# Altium integrated library Linear Technology Power Management System Supervisor, Monitor and Control.IntLib: 1611 symbols (part 15 of 100)
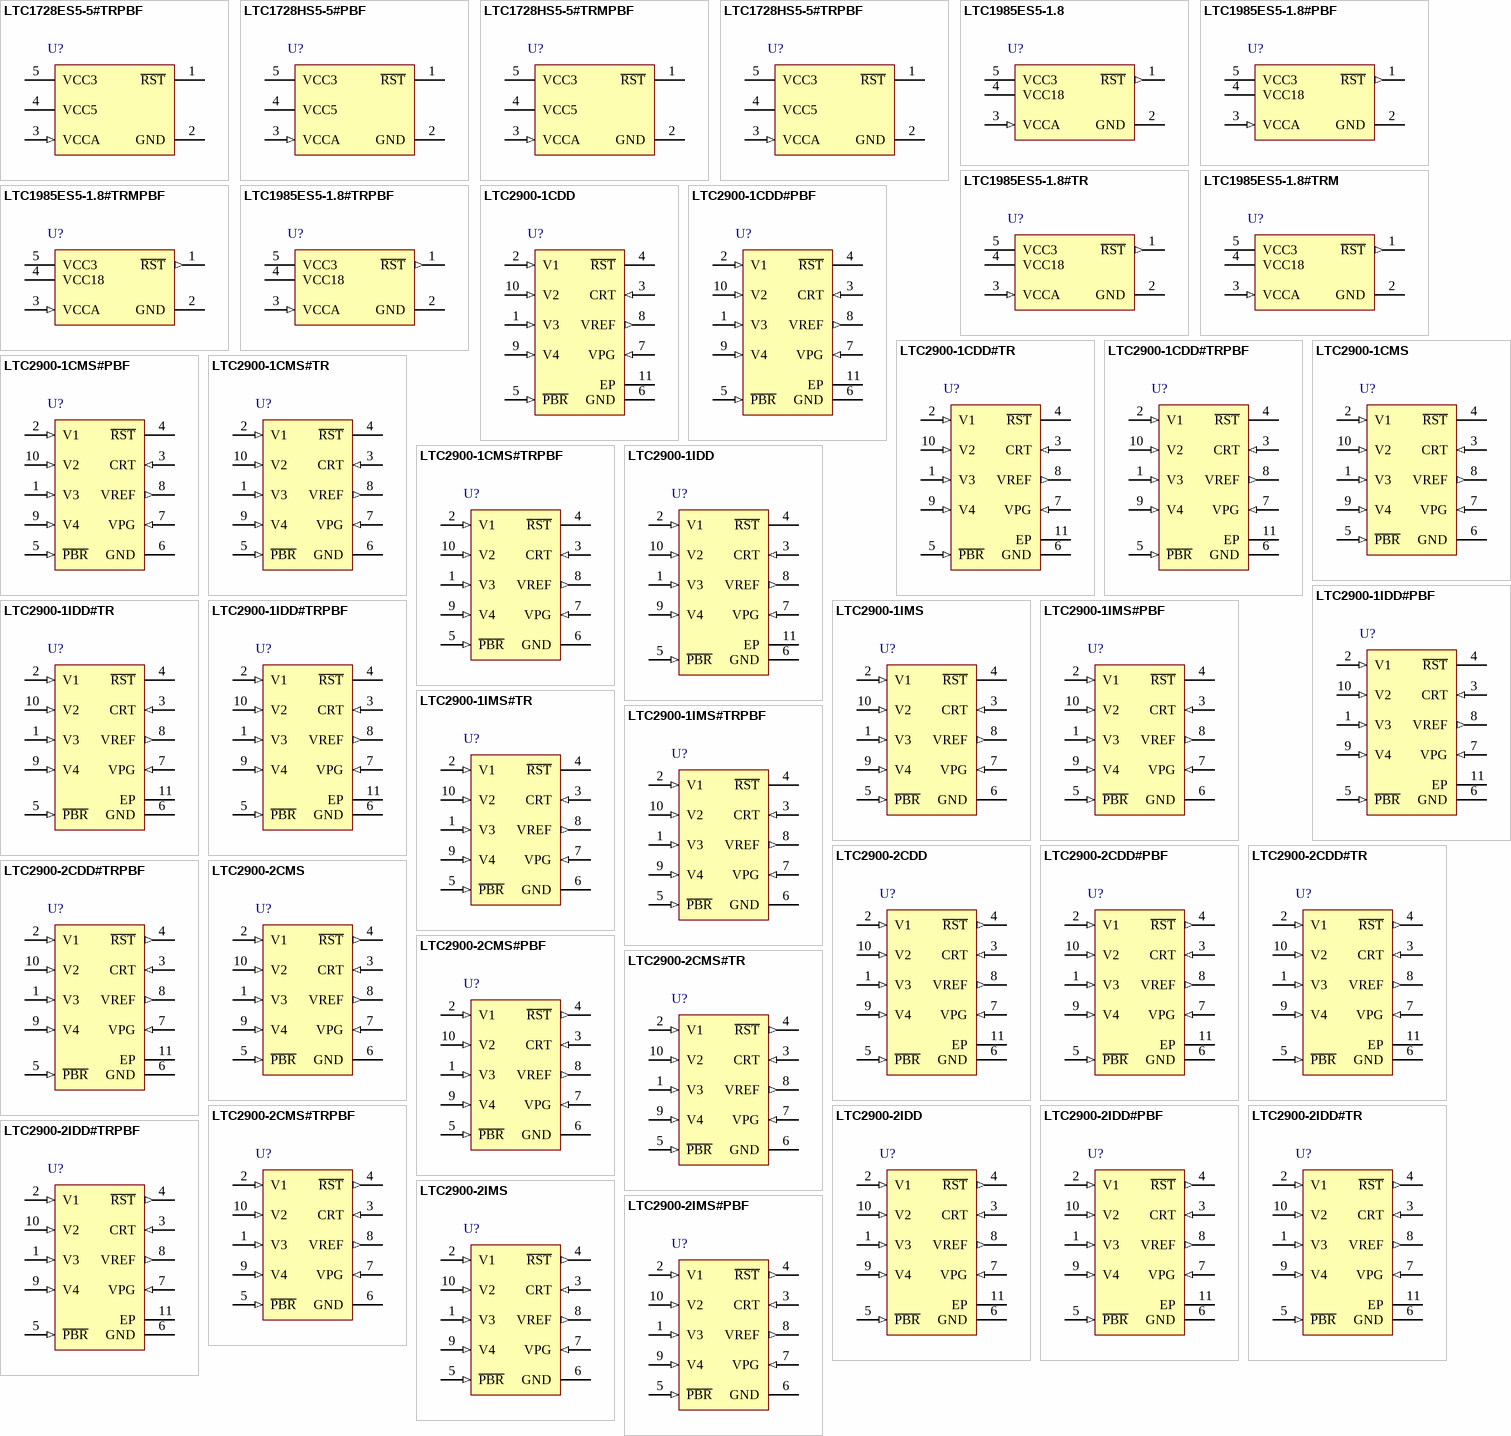
[diagram p59: symbols LTC1728ES5-5#TRPBF to LTC2900-2IMS#PBF]

## LTC1728HS5-5#TRPBF
designator U?
Micropower Precision Triple Supply Monitor, 5-pin SOT23 (S5-5), -40 to 125 degC, Pb-Free, Tape and Reel; Manufacturer: Linear Technology; PartNumber: LTC1728HS5-5#TRPBF; Number of Supplies(#): 3; DatasheetVersion: Rev. B; PackageVersion: Aug-07; PackageReference: S5-5; PackageDescription: 5-Pin Plastic SOT-23, Body 1.625 x 2.90 mm, Pitch 0.95 mm; Supplier 1: Digi-Key; Supplier Part Number 1: LTC1728HS5-5#TRPBF-ND; Supplier 2: Newark; Supplier Part Number 2: 56M3506; Packing: Tape and Reel; RoHS: TRUE; Mounting Technology: Surface Mount; ComponentLink1Description: Manufacturer URL; ComponentLink1URL: http://www.linear.com/; ComponentLink2Description: Datasheet; ComponentLink2URL: http://cds.linear.com/docs/en/datasheet/17278fb.pdf; ComponentLink3Description: Package Specification; ComponentLink3URL: http://cds.linear.com/docs/en/datasheet/17278fb.pdf
footprint LT-S5-5-SOT-23_N (SOT23, 5-Leads, Body 3x1.75mm, Pitch 0.95mm, IPC Medium Density)
footprint LT-S5-5-SOT-23_L (SOT23, 5-Leads, Body 3x1.75mm, Pitch 0.95mm, IPC High Density)
footprint LT-S5-5-SOT-23_M (SOT23, 5-Leads, Body 3x1.75mm, Pitch 0.95mm, IPC Low Density)
pins: 1 ~{RST} (oc) "Reset Logic Output. Active low, opendrain logic output with weak pull-up to VCC3. Can be pulled up greater than VCC3 when interfacing to 5V logic. Asserted when one or all of the supplies are below trip thresholds and held (See Datasheet)", 2 GND (power) "Ground.", 3 VCCA (in) "1V Sense, High Impedance Input. If unused,it can be tied to either VCC3 or VCC5/VCC25/VCC18.", 4 VCC5 (power) "5V Sense Input and Power Supply Pin.This pin is used on the LTC1727-5/LTC1728-5 to provide power to the part when the voltage on VCC5 is greater than the voltage on VCC3. Bypass to ground with a >=0.1uF ceramic capacitor.", 5 VCC3 (power) "3.3V Sense Input and Power Supply Pin. (3V Sense Input and Power Supply Pin for LTC1728-1.8.) This pin provides power to the part when the voltage on VCC3 is greater than the voltage on VCC5/VCC25/VCC18.Bypass to ground with (See Datasheet)"

## LTC1985ES5-1.8
designator U?
Micropower Precision Triple Supply Monitor with Push-Pull Reset Output, 5-pin SOT23 (S5-5), -40 to 85 degC; Manufacturer: Linear Technology; PartNumber: LTC1985ES5-1.8; Number of Supplies(#): 3; PackageVersion: Aug-07; PackageReference: S5-5; PackageDescription: 5-Pin Plastic SOT-23, Body 1.625 x 2.90 mm, Pitch 0.95 mm; RoHS: FALSE; Mounting Technology: Surface Mount; ComponentLink1Description: Manufacturer URL; ComponentLink1URL: http://www.linear.com/; ComponentLink2Description: Datasheet; ComponentLink2URL: http://cds.linear.com/docs/en/datasheet/198518f.pdf; ComponentLink3Description: Package Specification; ComponentLink3URL: http://cds.linear.com/docs/en/datasheet/17278fb.pdf
footprint LT-S5-5-SOT-23_N (SOT23, 5-Leads, Body 3x1.75mm, Pitch 0.95mm, IPC Medium Density)
footprint LT-S5-5-SOT-23_L (SOT23, 5-Leads, Body 3x1.75mm, Pitch 0.95mm, IPC High Density)
footprint LT-S5-5-SOT-23_M (SOT23, 5-Leads, Body 3x1.75mm, Pitch 0.95mm, IPC Low Density)
pins: 1 ~{RST} (out) "Reset Logic Output. Active low, 3V pushpull output. Asserted when one or all of the supplies are below trip thresholds and held for 200ms after all supplies become valid.", 2 GND (power) "Ground.", 3 VCCA (in) "1V Sense, High Impedance Input. If unused it can be tied to either VCC3 or VCC18.", 4 VCC18 (power) "1.8V Sense Input and Power Supply Pin. This pin is used on the LTC1985 to provide power to the part when the voltage on VCC18 is greater than the voltage on VCC3. Bypass to ground with a >=0.1uF ceramic capacitor.", 5 VCC3 (power) "3V Sense Input and Power Supply Pin. This pin provides power to the part when the voltage on VCC3 is greater than the voltage on VCC18. Bypass to ground with a >=0.1uF ceramic capacitor."

## LTC1985ES5-1.8#PBF
designator U?
Micropower Precision Triple Supply Monitor with Push-Pull Reset Output, 5-pin SOT23 (S5-5), -40 to 85 degC, Pb-Free; Manufacturer: Linear Technology; PartNumber: LTC1985ES5-1.8#PBF; Number of Supplies(#): 3; PackageVersion: Aug-07; PackageReference: S5-5; PackageDescription: 5-Pin Plastic SOT-23, Body 1.625 x 2.90 mm, Pitch 0.95 mm; Supplier 1: Newark; Supplier Part Number 1: 79R2160; RoHS: TRUE; Mounting Technology: Surface Mount; ComponentLink1Description: Manufacturer URL; ComponentLink1URL: http://www.linear.com/; ComponentLink2Description: Datasheet; ComponentLink2URL: http://cds.linear.com/docs/en/datasheet/198518f.pdf; ComponentLink3Description: Package Specification; ComponentLink3URL: http://cds.linear.com/docs/en/datasheet/17278fb.pdf
footprint LT-S5-5-SOT-23_N (SOT23, 5-Leads, Body 3x1.75mm, Pitch 0.95mm, IPC Medium Density)
footprint LT-S5-5-SOT-23_L (SOT23, 5-Leads, Body 3x1.75mm, Pitch 0.95mm, IPC High Density)
footprint LT-S5-5-SOT-23_M (SOT23, 5-Leads, Body 3x1.75mm, Pitch 0.95mm, IPC Low Density)
pins: 1 ~{RST} (out) "Reset Logic Output. Active low, 3V pushpull output. Asserted when one or all of the supplies are below trip thresholds and held for 200ms after all supplies become valid.", 2 GND (power) "Ground.", 3 VCCA (in) "1V Sense, High Impedance Input. If unused it can be tied to either VCC3 or VCC18.", 4 VCC18 (power) "1.8V Sense Input and Power Supply Pin. This pin is used on the LTC1985 to provide power to the part when the voltage on VCC18 is greater than the voltage on VCC3. Bypass to ground with a >=0.1uF ceramic capacitor.", 5 VCC3 (power) "3V Sense Input and Power Supply Pin. This pin provides power to the part when the voltage on VCC3 is greater than the voltage on VCC18. Bypass to ground with a >=0.1uF ceramic capacitor."

## LTC1985ES5-1.8#TR
designator U?
Micropower Precision Triple Supply Monitor with Push-Pull Reset Output, 5-pin SOT23 (S5-5), -40 to 85 degC, Tape and Reel; Manufacturer: Linear Technology; PartNumber: LTC1985ES5-1.8#TR; Number of Supplies(#): 3; PackageVersion: Aug-07; PackageReference: S5-5; PackageDescription: 5-Pin Plastic SOT-23, Body 1.625 x 2.90 mm, Pitch 0.95 mm; Supplier 1: Digi-Key; Supplier Part Number 1: LTC1985ES5-1.8#TR-ND; Packing: Tape and Reel; RoHS: FALSE; Mounting Technology: Surface Mount; ComponentLink1Description: Manufacturer URL; ComponentLink1URL: http://www.linear.com/; ComponentLink2Description: Datasheet; ComponentLink2URL: http://cds.linear.com/docs/en/datasheet/198518f.pdf; ComponentLink3Description: Package Specification; ComponentLink3URL: http://cds.linear.com/docs/en/datasheet/17278fb.pdf
footprint LT-S5-5-SOT-23_N (SOT23, 5-Leads, Body 3x1.75mm, Pitch 0.95mm, IPC Medium Density)
footprint LT-S5-5-SOT-23_L (SOT23, 5-Leads, Body 3x1.75mm, Pitch 0.95mm, IPC High Density)
footprint LT-S5-5-SOT-23_M (SOT23, 5-Leads, Body 3x1.75mm, Pitch 0.95mm, IPC Low Density)
pins: 1 ~{RST} (out) "Reset Logic Output. Active low, 3V pushpull output. Asserted when one or all of the supplies are below trip thresholds and held for 200ms after all supplies become valid.", 2 GND (power) "Ground.", 3 VCCA (in) "1V Sense, High Impedance Input. If unused it can be tied to either VCC3 or VCC18.", 4 VCC18 (power) "1.8V Sense Input and Power Supply Pin. This pin is used on the LTC1985 to provide power to the part when the voltage on VCC18 is greater than the voltage on VCC3. Bypass to ground with a >=0.1uF ceramic capacitor.", 5 VCC3 (power) "3V Sense Input and Power Supply Pin. This pin provides power to the part when the voltage on VCC3 is greater than the voltage on VCC18. Bypass to ground with a >=0.1uF ceramic capacitor."

## LTC1985ES5-1.8#TRM
designator U?
Micropower Precision Triple Supply Monitor with Push-Pull Reset Output, 5-pin SOT23 (S5-5), -40 to 85 degC, Mini Tape and Reel; Manufacturer: Linear Technology; PartNumber: LTC1985ES5-1.8#TRM; Number of Supplies(#): 3; PackageVersion: Aug-07; PackageReference: S5-5; PackageDescription: 5-Pin Plastic SOT-23, Body 1.625 x 2.90 mm, Pitch 0.95 mm; Supplier 1: Digi-Key; Supplier Part Number 1: LTC1985ES5-1.8#TRM-ND; Packing: Mini Tape and Reel; RoHS: FALSE; Mounting Technology: Surface Mount; ComponentLink1Description: Manufacturer URL; ComponentLink1URL: http://www.linear.com/; ComponentLink2Description: Datasheet; ComponentLink2URL: http://cds.linear.com/docs/en/datasheet/198518f.pdf; ComponentLink3Description: Package Specification; ComponentLink3URL: http://cds.linear.com/docs/en/datasheet/17278fb.pdf
footprint LT-S5-5-SOT-23_N (SOT23, 5-Leads, Body 3x1.75mm, Pitch 0.95mm, IPC Medium Density)
footprint LT-S5-5-SOT-23_L (SOT23, 5-Leads, Body 3x1.75mm, Pitch 0.95mm, IPC High Density)
footprint LT-S5-5-SOT-23_M (SOT23, 5-Leads, Body 3x1.75mm, Pitch 0.95mm, IPC Low Density)
pins: 1 ~{RST} (out) "Reset Logic Output. Active low, 3V pushpull output. Asserted when one or all of the supplies are below trip thresholds and held for 200ms after all supplies become valid.", 2 GND (power) "Ground.", 3 VCCA (in) "1V Sense, High Impedance Input. If unused it can be tied to either VCC3 or VCC18.", 4 VCC18 (power) "1.8V Sense Input and Power Supply Pin. This pin is used on the LTC1985 to provide power to the part when the voltage on VCC18 is greater than the voltage on VCC3. Bypass to ground with a >=0.1uF ceramic capacitor.", 5 VCC3 (power) "3V Sense Input and Power Supply Pin. This pin provides power to the part when the voltage on VCC3 is greater than the voltage on VCC18. Bypass to ground with a >=0.1uF ceramic capacitor."

## LTC1985ES5-1.8#TRMPBF
designator U?
Micropower Precision Triple Supply Monitor with Push-Pull Reset Output, 5-pin SOT23 (S5-5), -40 to 85 degC, Pb-Free, Mini Tape and Reel; Manufacturer: Linear Technology; PartNumber: LTC1985ES5-1.8#TRMPBF; Number of Supplies(#): 3; PackageVersion: Aug-07; PackageReference: S5-5; PackageDescription: 5-Pin Plastic SOT-23, Body 1.625 x 2.90 mm, Pitch 0.95 mm; Supplier 1: Digi-Key; Supplier Part Number 1: LTC1985ES5-1.8#TRMPBF-ND; Supplier 2: Farnell; Supplier Part Number 2: 1556398; Supplier 3: Newark; Supplier Part Number 3: 56M4429; Packing: Mini Tape and Reel; RoHS: TRUE; Mounting Technology: Surface Mount; ComponentLink1Description: Manufacturer URL; ComponentLink1URL: http://www.linear.com/; ComponentLink2Description: Datasheet; ComponentLink2URL: http://cds.linear.com/docs/en/datasheet/198518f.pdf; ComponentLink3Description: Package Specification; ComponentLink3URL: http://cds.linear.com/docs/en/datasheet/17278fb.pdf
footprint LT-S5-5-SOT-23_N (SOT23, 5-Leads, Body 3x1.75mm, Pitch 0.95mm, IPC Medium Density)
footprint LT-S5-5-SOT-23_L (SOT23, 5-Leads, Body 3x1.75mm, Pitch 0.95mm, IPC High Density)
footprint LT-S5-5-SOT-23_M (SOT23, 5-Leads, Body 3x1.75mm, Pitch 0.95mm, IPC Low Density)
pins: 1 ~{RST} (out) "Reset Logic Output. Active low, 3V pushpull output. Asserted when one or all of the supplies are below trip thresholds and held for 200ms after all supplies become valid.", 2 GND (power) "Ground.", 3 VCCA (in) "1V Sense, High Impedance Input. If unused it can be tied to either VCC3 or VCC18.", 4 VCC18 (power) "1.8V Sense Input and Power Supply Pin. This pin is used on the LTC1985 to provide power to the part when the voltage on VCC18 is greater than the voltage on VCC3. Bypass to ground with a >=0.1uF ceramic capacitor.", 5 VCC3 (power) "3V Sense Input and Power Supply Pin. This pin provides power to the part when the voltage on VCC3 is greater than the voltage on VCC18. Bypass to ground with a >=0.1uF ceramic capacitor."

## LTC1985ES5-1.8#TRPBF
designator U?
Micropower Precision Triple Supply Monitor with Push-Pull Reset Output, 5-pin SOT23 (S5-5), -40 to 85 degC, Pb-Free, Tape and Reel; Manufacturer: Linear Technology; PartNumber: LTC1985ES5-1.8#TRPBF; Number of Supplies(#): 3; PackageVersion: Aug-07; PackageReference: S5-5; PackageDescription: 5-Pin Plastic SOT-23, Body 1.625 x 2.90 mm, Pitch 0.95 mm; Supplier 1: Digi-Key; Supplier Part Number 1: LTC1985ES5-1.8#TRPBF-ND; Supplier 2: Newark; Supplier Part Number 2: 56M4430; Packing: Tape and Reel; RoHS: TRUE; Mounting Technology: Surface Mount; ComponentLink1Description: Manufacturer URL; ComponentLink1URL: http://www.linear.com/; ComponentLink2Description: Datasheet; ComponentLink2URL: http://cds.linear.com/docs/en/datasheet/198518f.pdf; ComponentLink3Description: Package Specification; ComponentLink3URL: http://cds.linear.com/docs/en/datasheet/17278fb.pdf
footprint LT-S5-5-SOT-23_N (SOT23, 5-Leads, Body 3x1.75mm, Pitch 0.95mm, IPC Medium Density)
footprint LT-S5-5-SOT-23_L (SOT23, 5-Leads, Body 3x1.75mm, Pitch 0.95mm, IPC High Density)
footprint LT-S5-5-SOT-23_M (SOT23, 5-Leads, Body 3x1.75mm, Pitch 0.95mm, IPC Low Density)
pins: 1 ~{RST} (out) "Reset Logic Output. Active low, 3V pushpull output. Asserted when one or all of the supplies are below trip thresholds and held for 200ms after all supplies become valid.", 2 GND (power) "Ground.", 3 VCCA (in) "1V Sense, High Impedance Input. If unused it can be tied to either VCC3 or VCC18.", 4 VCC18 (power) "1.8V Sense Input and Power Supply Pin. This pin is used on the LTC1985 to provide power to the part when the voltage on VCC18 is greater than the voltage on VCC3. Bypass to ground with a >=0.1uF ceramic capacitor.", 5 VCC3 (power) "3V Sense Input and Power Supply Pin. This pin provides power to the part when the voltage on VCC3 is greater than the voltage on VCC18. Bypass to ground with a >=0.1uF ceramic capacitor."

## LTC2900-1CDD
designator U?
Programmable Quad Supply Monitor with Adjustable Reset Timer, 10-pin SON (DD-10), 0 to 70 degC; Manufacturer: Linear Technology; PartNumber: LTC2900-1CDD; Number of Supplies(#): 4; PackageVersion: Rev. C, 06/2010; PackageReference: DD-10; PackageDescription: 10-Pin Plastic DFN, Body 3 x 3 mm, Pitch 0.5 mm; Supplier 1: Digi-Key; Supplier Part Number 1: LTC2900-1CDD-ND; RoHS: FALSE; Mounting Technology: Surface Mount; Code_JEDEC: MO-229; ComponentLink1Description: Manufacturer URL; ComponentLink1URL: http://www.linear.com/; ComponentLink2Description: Datasheet; ComponentLink2URL: http://cds.linear.com/docs/en/datasheet/2900f.pdf; ComponentLink3Description: Package Specification; ComponentLink3URL: http://cds.linear.com/docs/en/packaging/DFN_10_05-08-1699.pdf
footprint LT-DD-10_V (SON, 10-Leads, Body 3x3mm, Pitch 0.5mm, Thermal Pad 2.38x1.65mm)
pins: 1 V3 (in) "Voltage Input 3. Select from 2.5V, 1.8V, 1.5V or ADJ. See Table 1 for details.", 2 V1 (in) "Voltage Input 1. Select from 5V or 3.3V. See Table 1 for details. The greater of (V1, V2) is also VCC for the device. Bypass this pin to ground with a 0.1uF (or greater) capacitor.", 3 CRT (in) "Reset Delay Time Programming Pin. Attach an external capacitor (CRT) to GND to set a reset delay time of 4.6ms/nF. Leaving the pin open generates a minimum delay of approximately 50us. A 47nF capacitor will generate a 216ms (See Datasheet)", 4 ~{RST} (oc) "Reset Logic Output. Active low with weak pull-up to V2 (LTC2900-1) or active pull-up to V2 (LTC2900-2). Pulls low when any voltage input is below the reset threshold and held low for the programmed delay time after all (See Datasheet)", 5 ~{PBR} (in) "Manual Reset Pin. Attach a push-button switch between this pin and ground. A logic low on this pin will pull R\S\T\ low. When the P\B\R\ pin returns high, R\S\T\ will return high after the programmed reset delay assuming all (See Datasheet)", 6 GND (power) "Ground.", 7 VPG (in) "Voltage Threshold Combination Select Input. Connect to an external 1% resistive divider between VREF and GND to select 1 of 16 combinations of preset and/or +/-adjustable voltage thresholds (see Table 1). Do not add (See Datasheet)", 8 VREF (out) "Buffered Reference Voltage. A 1.210V nominal reference used for the programming voltage (VPG) and for the offset of negative adjustable applications. The buffered reference can source and sink up to 1mA. The reference can (See Datasheet)", 9 V4 (in) "Voltage Input 4. Select from 1.8V, 1.5V, ADJ or -ADJ. See Table 1 for details.", 10 V2 (in) "Voltage Input 2. Select from 3.3V, 3V or 2.5V. See Table 1 for details. The greater of (V1, V2) is also VCC for the device. Bypass this pin to ground with a 0.1uF (or greater) capacitor. R\S\T\ is weakly pulled up to V2 (See Datasheet)", 11 EP

## LTC2900-1CDD#PBF
designator U?
Programmable Quad Supply Monitor with Adjustable Reset Timer, 10-pin SON (DD-10), 0 to 70 degC, Pb-Free; Manufacturer: Linear Technology; PartNumber: LTC2900-1CDD#PBF; Number of Supplies(#): 4; PackageVersion: Rev. C, 06/2010; PackageReference: DD-10; PackageDescription: 10-Pin Plastic DFN, Body 3 x 3 mm, Pitch 0.5 mm; Supplier 1: Digi-Key; Supplier Part Number 1: LTC2900-1CDD#PBF-ND; Supplier 2: Newark; Supplier Part Number 2: 56M6541; RoHS: TRUE; Mounting Technology: Surface Mount; Code_JEDEC: MO-229; ComponentLink1Description: Manufacturer URL; ComponentLink1URL: http://www.linear.com/; ComponentLink2Description: Datasheet; ComponentLink2URL: http://cds.linear.com/docs/en/datasheet/2900f.pdf; ComponentLink3Description: Package Specification; ComponentLink3URL: http://cds.linear.com/docs/en/packaging/DFN_10_05-08-1699.pdf
footprint LT-DD-10_V (SON, 10-Leads, Body 3x3mm, Pitch 0.5mm, Thermal Pad 2.38x1.65mm)
pins: 1 V3 (in) "Voltage Input 3. Select from 2.5V, 1.8V, 1.5V or ADJ. See Table 1 for details.", 2 V1 (in) "Voltage Input 1. Select from 5V or 3.3V. See Table 1 for details. The greater of (V1, V2) is also VCC for the device. Bypass this pin to ground with a 0.1uF (or greater) capacitor.", 3 CRT (in) "Reset Delay Time Programming Pin. Attach an external capacitor (CRT) to GND to set a reset delay time of 4.6ms/nF. Leaving the pin open generates a minimum delay of approximately 50us. A 47nF capacitor will generate a 216ms (See Datasheet)", 4 ~{RST} (oc) "Reset Logic Output. Active low with weak pull-up to V2 (LTC2900-1) or active pull-up to V2 (LTC2900-2). Pulls low when any voltage input is below the reset threshold and held low for the programmed delay time after all (See Datasheet)", 5 ~{PBR} (in) "Manual Reset Pin. Attach a push-button switch between this pin and ground. A logic low on this pin will pull R\S\T\ low. When the P\B\R\ pin returns high, R\S\T\ will return high after the programmed reset delay assuming all (See Datasheet)", 6 GND (power) "Ground.", 7 VPG (in) "Voltage Threshold Combination Select Input. Connect to an external 1% resistive divider between VREF and GND to select 1 of 16 combinations of preset and/or +/-adjustable voltage thresholds (see Table 1). Do not add (See Datasheet)", 8 VREF (out) "Buffered Reference Voltage. A 1.210V nominal reference used for the programming voltage (VPG) and for the offset of negative adjustable applications. The buffered reference can source and sink up to 1mA. The reference can (See Datasheet)", 9 V4 (in) "Voltage Input 4. Select from 1.8V, 1.5V, ADJ or -ADJ. See Table 1 for details.", 10 V2 (in) "Voltage Input 2. Select from 3.3V, 3V or 2.5V. See Table 1 for details. The greater of (V1, V2) is also VCC for the device. Bypass this pin to ground with a 0.1uF (or greater) capacitor. R\S\T\ is weakly pulled up to V2 (See Datasheet)", 11 EP

## LTC2900-1CDD#TR
designator U?
Programmable Quad Supply Monitor with Adjustable Reset Timer, 10-pin SON (DD-10), 0 to 70 degC, Tape and Reel; Manufacturer: Linear Technology; PartNumber: LTC2900-1CDD#TR; Number of Supplies(#): 4; PackageVersion: Rev. C, 06/2010; PackageReference: DD-10; PackageDescription: 10-Pin Plastic DFN, Body 3 x 3 mm, Pitch 0.5 mm; Supplier 1: Digi-Key; Supplier Part Number 1: LTC2900-1CDD#TR-ND; Packing: Tape and Reel; RoHS: FALSE; Mounting Technology: Surface Mount; Code_JEDEC: MO-229; ComponentLink1Description: Manufacturer URL; ComponentLink1URL: http://www.linear.com/; ComponentLink2Description: Datasheet; ComponentLink2URL: http://cds.linear.com/docs/en/datasheet/2900f.pdf; ComponentLink3Description: Package Specification; ComponentLink3URL: http://cds.linear.com/docs/en/packaging/DFN_10_05-08-1699.pdf
footprint LT-DD-10_V (SON, 10-Leads, Body 3x3mm, Pitch 0.5mm, Thermal Pad 2.38x1.65mm)
pins: 1 V3 (in) "Voltage Input 3. Select from 2.5V, 1.8V, 1.5V or ADJ. See Table 1 for details.", 2 V1 (in) "Voltage Input 1. Select from 5V or 3.3V. See Table 1 for details. The greater of (V1, V2) is also VCC for the device. Bypass this pin to ground with a 0.1uF (or greater) capacitor.", 3 CRT (in) "Reset Delay Time Programming Pin. Attach an external capacitor (CRT) to GND to set a reset delay time of 4.6ms/nF. Leaving the pin open generates a minimum delay of approximately 50us. A 47nF capacitor will generate a 216ms (See Datasheet)", 4 ~{RST} (oc) "Reset Logic Output. Active low with weak pull-up to V2 (LTC2900-1) or active pull-up to V2 (LTC2900-2). Pulls low when any voltage input is below the reset threshold and held low for the programmed delay time after all (See Datasheet)", 5 ~{PBR} (in) "Manual Reset Pin. Attach a push-button switch between this pin and ground. A logic low on this pin will pull R\S\T\ low. When the P\B\R\ pin returns high, R\S\T\ will return high after the programmed reset delay assuming all (See Datasheet)", 6 GND (power) "Ground.", 7 VPG (in) "Voltage Threshold Combination Select Input. Connect to an external 1% resistive divider between VREF and GND to select 1 of 16 combinations of preset and/or +/-adjustable voltage thresholds (see Table 1). Do not add (See Datasheet)", 8 VREF (out) "Buffered Reference Voltage. A 1.210V nominal reference used for the programming voltage (VPG) and for the offset of negative adjustable applications. The buffered reference can source and sink up to 1mA. The reference can (See Datasheet)", 9 V4 (in) "Voltage Input 4. Select from 1.8V, 1.5V, ADJ or -ADJ. See Table 1 for details.", 10 V2 (in) "Voltage Input 2. Select from 3.3V, 3V or 2.5V. See Table 1 for details. The greater of (V1, V2) is also VCC for the device. Bypass this pin to ground with a 0.1uF (or greater) capacitor. R\S\T\ is weakly pulled up to V2 (See Datasheet)", 11 EP

## LTC2900-1CDD#TRPBF
designator U?
Programmable Quad Supply Monitor with Adjustable Reset Timer, 10-pin SON (DD-10), 0 to 70 degC, Pb-Free, Tape and Reel; Manufacturer: Linear Technology; PartNumber: LTC2900-1CDD#TRPBF; Number of Supplies(#): 4; PackageVersion: Rev. C, 06/2010; PackageReference: DD-10; PackageDescription: 10-Pin Plastic DFN, Body 3 x 3 mm, Pitch 0.5 mm; Supplier 1: Digi-Key; Supplier Part Number 1: LTC2900-1CDD#TRPBF-ND; Supplier 2: Newark; Supplier Part Number 2: 56M6543; Packing: Tape and Reel; RoHS: TRUE; Mounting Technology: Surface Mount; Code_JEDEC: MO-229; ComponentLink1Description: Manufacturer URL; ComponentLink1URL: http://www.linear.com/; ComponentLink2Description: Datasheet; ComponentLink2URL: http://cds.linear.com/docs/en/datasheet/2900f.pdf; ComponentLink3Description: Package Specification; ComponentLink3URL: http://cds.linear.com/docs/en/packaging/DFN_10_05-08-1699.pdf
footprint LT-DD-10_V (SON, 10-Leads, Body 3x3mm, Pitch 0.5mm, Thermal Pad 2.38x1.65mm)
pins: 1 V3 (in) "Voltage Input 3. Select from 2.5V, 1.8V, 1.5V or ADJ. See Table 1 for details.", 2 V1 (in) "Voltage Input 1. Select from 5V or 3.3V. See Table 1 for details. The greater of (V1, V2) is also VCC for the device. Bypass this pin to ground with a 0.1uF (or greater) capacitor.", 3 CRT (in) "Reset Delay Time Programming Pin. Attach an external capacitor (CRT) to GND to set a reset delay time of 4.6ms/nF. Leaving the pin open generates a minimum delay of approximately 50us. A 47nF capacitor will generate a 216ms (See Datasheet)", 4 ~{RST} (oc) "Reset Logic Output. Active low with weak pull-up to V2 (LTC2900-1) or active pull-up to V2 (LTC2900-2). Pulls low when any voltage input is below the reset threshold and held low for the programmed delay time after all (See Datasheet)", 5 ~{PBR} (in) "Manual Reset Pin. Attach a push-button switch between this pin and ground. A logic low on this pin will pull R\S\T\ low. When the P\B\R\ pin returns high, R\S\T\ will return high after the programmed reset delay assuming all (See Datasheet)", 6 GND (power) "Ground.", 7 VPG (in) "Voltage Threshold Combination Select Input. Connect to an external 1% resistive divider between VREF and GND to select 1 of 16 combinations of preset and/or +/-adjustable voltage thresholds (see Table 1). Do not add (See Datasheet)", 8 VREF (out) "Buffered Reference Voltage. A 1.210V nominal reference used for the programming voltage (VPG) and for the offset of negative adjustable applications. The buffered reference can source and sink up to 1mA. The reference can (See Datasheet)", 9 V4 (in) "Voltage Input 4. Select from 1.8V, 1.5V, ADJ or -ADJ. See Table 1 for details.", 10 V2 (in) "Voltage Input 2. Select from 3.3V, 3V or 2.5V. See Table 1 for details. The greater of (V1, V2) is also VCC for the device. Bypass this pin to ground with a 0.1uF (or greater) capacitor. R\S\T\ is weakly pulled up to V2 (See Datasheet)", 11 EP

## LTC2900-1CMS
designator U?
Programmable Quad Supply Monitor with Adjustable Reset Timer, 10-pin SOP (MS-10), 0 to 70 degC; Manufacturer: Linear Technology; PartNumber: LTC2900-1CMS; Number of Supplies(#): 4; PackageVersion: Rev. E, 06/2010; PackageReference: MS-10; PackageDescription: 10-Pin Plastic MSOP, Body 3 x 3 mm, Pitch 0.5 mm; Supplier 1: Digi-Key; Supplier Part Number 1: LTC2900-1CMS-ND; RoHS: FALSE; Mounting Technology: Surface Mount; ComponentLink1Description: Manufacturer URL; ComponentLink1URL: http://www.linear.com/; ComponentLink2Description: Datasheet; ComponentLink2URL: http://cds.linear.com/docs/en/datasheet/2900f.pdf; ComponentLink3Description: Package Specification; ComponentLink3URL: http://cds.linear.com/docs/en/packaging/05081661_F_MS.pdf
footprint LT-MS-10_N (SOP, 10-Leads, Body 3.1x3.1mm, Pitch 0.5mm, IPC Medium Density)
footprint LT-MS-10_L (SOP, 10-Leads, Body 3.1x3.1mm, Pitch 0.5mm, IPC High Density)
footprint LT-MS-10_M (SOP, 10-Leads, Body 3.1x3.1mm, Pitch 0.5mm, IPC Low Density)
pins: 1 V3 (in) "Voltage Input 3. Select from 2.5V, 1.8V, 1.5V or ADJ. See Table 1 for details.", 2 V1 (in) "Voltage Input 1. Select from 5V or 3.3V. See Table 1 for details. The greater of (V1, V2) is also VCC for the device. Bypass this pin to ground with a 0.1uF (or greater) capacitor.", 3 CRT (in) "Reset Delay Time Programming Pin. Attach an external capacitor (CRT) to GND to set a reset delay time of 4.6ms/nF. Leaving the pin open generates a minimum delay of approximately 50us. A 47nF capacitor will generate a 216ms (See Datasheet)", 4 ~{RST} (oc) "Reset Logic Output. Active low with weak pull-up to V2 (LTC2900-1) or active pull-up to V2 (LTC2900-2). Pulls low when any voltage input is below the reset threshold and held low for the programmed delay time after all (See Datasheet)", 5 ~{PBR} (in) "Manual Reset Pin. Attach a push-button switch between this pin and ground. A logic low on this pin will pull R\S\T\ low. When the P\B\R\ pin returns high, R\S\T\ will return high after the programmed reset delay assuming all (See Datasheet)", 6 GND (power) "Ground.", 7 VPG (in) "Voltage Threshold Combination Select Input. Connect to an external 1% resistive divider between VREF and GND to select 1 of 16 combinations of preset and/or +/-adjustable voltage thresholds (see Table 1). Do not add (See Datasheet)", 8 VREF (out) "Buffered Reference Voltage. A 1.210V nominal reference used for the programming voltage (VPG) and for the offset of negative adjustable applications. The buffered reference can source and sink up to 1mA. The reference can (See Datasheet)", 9 V4 (in) "Voltage Input 4. Select from 1.8V, 1.5V, ADJ or -ADJ. See Table 1 for details.", 10 V2 (in) "Voltage Input 2. Select from 3.3V, 3V or 2.5V. See Table 1 for details. The greater of (V1, V2) is also VCC for the device. Bypass this pin to ground with a 0.1uF (or greater) capacitor. R\S\T\ is weakly pulled up to V2 (See Datasheet)"

## LTC2900-1CMS#PBF
designator U?
Programmable Quad Supply Monitor with Adjustable Reset Timer, 10-pin SOP (MS-10), 0 to 70 degC, Pb-Free; Manufacturer: Linear Technology; PartNumber: LTC2900-1CMS#PBF; Number of Supplies(#): 4; PackageVersion: Rev. E, 06/2010; PackageReference: MS-10; PackageDescription: 10-Pin Plastic MSOP, Body 3 x 3 mm, Pitch 0.5 mm; Supplier 1: Digi-Key; Supplier Part Number 1: LTC2900-1CMS#PBF-ND; Supplier 2: Farnell; Supplier Part Number 2: 1663704; Supplier 3: Newark; Supplier Part Number 3: 56M6545; RoHS: TRUE; Mounting Technology: Surface Mount; ComponentLink1Description: Manufacturer URL; ComponentLink1URL: http://www.linear.com/; ComponentLink2Description: Datasheet; ComponentLink2URL: http://cds.linear.com/docs/en/datasheet/2900f.pdf; ComponentLink3Description: Package Specification; ComponentLink3URL: http://cds.linear.com/docs/en/packaging/05081661_F_MS.pdf
footprint LT-MS-10_N (SOP, 10-Leads, Body 3.1x3.1mm, Pitch 0.5mm, IPC Medium Density)
footprint LT-MS-10_L (SOP, 10-Leads, Body 3.1x3.1mm, Pitch 0.5mm, IPC High Density)
footprint LT-MS-10_M (SOP, 10-Leads, Body 3.1x3.1mm, Pitch 0.5mm, IPC Low Density)
pins: 1 V3 (in) "Voltage Input 3. Select from 2.5V, 1.8V, 1.5V or ADJ. See Table 1 for details.", 2 V1 (in) "Voltage Input 1. Select from 5V or 3.3V. See Table 1 for details. The greater of (V1, V2) is also VCC for the device. Bypass this pin to ground with a 0.1uF (or greater) capacitor.", 3 CRT (in) "Reset Delay Time Programming Pin. Attach an external capacitor (CRT) to GND to set a reset delay time of 4.6ms/nF. Leaving the pin open generates a minimum delay of approximately 50us. A 47nF capacitor will generate a 216ms (See Datasheet)", 4 ~{RST} (oc) "Reset Logic Output. Active low with weak pull-up to V2 (LTC2900-1) or active pull-up to V2 (LTC2900-2). Pulls low when any voltage input is below the reset threshold and held low for the programmed delay time after all (See Datasheet)", 5 ~{PBR} (in) "Manual Reset Pin. Attach a push-button switch between this pin and ground. A logic low on this pin will pull R\S\T\ low. When the P\B\R\ pin returns high, R\S\T\ will return high after the programmed reset delay assuming all (See Datasheet)", 6 GND (power) "Ground.", 7 VPG (in) "Voltage Threshold Combination Select Input. Connect to an external 1% resistive divider between VREF and GND to select 1 of 16 combinations of preset and/or +/-adjustable voltage thresholds (see Table 1). Do not add (See Datasheet)", 8 VREF (out) "Buffered Reference Voltage. A 1.210V nominal reference used for the programming voltage (VPG) and for the offset of negative adjustable applications. The buffered reference can source and sink up to 1mA. The reference can (See Datasheet)", 9 V4 (in) "Voltage Input 4. Select from 1.8V, 1.5V, ADJ or -ADJ. See Table 1 for details.", 10 V2 (in) "Voltage Input 2. Select from 3.3V, 3V or 2.5V. See Table 1 for details. The greater of (V1, V2) is also VCC for the device. Bypass this pin to ground with a 0.1uF (or greater) capacitor. R\S\T\ is weakly pulled up to V2 (See Datasheet)"

## LTC2900-1CMS#TR
designator U?
Programmable Quad Supply Monitor with Adjustable Reset Timer, 10-pin SOP (MS-10), 0 to 70 degC, Tape and Reel; Manufacturer: Linear Technology; PartNumber: LTC2900-1CMS#TR; Number of Supplies(#): 4; PackageVersion: Rev. E, 06/2010; PackageReference: MS-10; PackageDescription: 10-Pin Plastic MSOP, Body 3 x 3 mm, Pitch 0.5 mm; Supplier 1: Digi-Key; Supplier Part Number 1: LTC2900-1CMS#TR-ND; Packing: Tape and Reel; RoHS: FALSE; Mounting Technology: Surface Mount; ComponentLink1Description: Manufacturer URL; ComponentLink1URL: http://www.linear.com/; ComponentLink2Description: Datasheet; ComponentLink2URL: http://cds.linear.com/docs/en/datasheet/2900f.pdf; ComponentLink3Description: Package Specification; ComponentLink3URL: http://cds.linear.com/docs/en/packaging/05081661_F_MS.pdf
footprint LT-MS-10_N (SOP, 10-Leads, Body 3.1x3.1mm, Pitch 0.5mm, IPC Medium Density)
footprint LT-MS-10_L (SOP, 10-Leads, Body 3.1x3.1mm, Pitch 0.5mm, IPC High Density)
footprint LT-MS-10_M (SOP, 10-Leads, Body 3.1x3.1mm, Pitch 0.5mm, IPC Low Density)
pins: 1 V3 (in) "Voltage Input 3. Select from 2.5V, 1.8V, 1.5V or ADJ. See Table 1 for details.", 2 V1 (in) "Voltage Input 1. Select from 5V or 3.3V. See Table 1 for details. The greater of (V1, V2) is also VCC for the device. Bypass this pin to ground with a 0.1uF (or greater) capacitor.", 3 CRT (in) "Reset Delay Time Programming Pin. Attach an external capacitor (CRT) to GND to set a reset delay time of 4.6ms/nF. Leaving the pin open generates a minimum delay of approximately 50us. A 47nF capacitor will generate a 216ms (See Datasheet)", 4 ~{RST} (oc) "Reset Logic Output. Active low with weak pull-up to V2 (LTC2900-1) or active pull-up to V2 (LTC2900-2). Pulls low when any voltage input is below the reset threshold and held low for the programmed delay time after all (See Datasheet)", 5 ~{PBR} (in) "Manual Reset Pin. Attach a push-button switch between this pin and ground. A logic low on this pin will pull R\S\T\ low. When the P\B\R\ pin returns high, R\S\T\ will return high after the programmed reset delay assuming all (See Datasheet)", 6 GND (power) "Ground.", 7 VPG (in) "Voltage Threshold Combination Select Input. Connect to an external 1% resistive divider between VREF and GND to select 1 of 16 combinations of preset and/or +/-adjustable voltage thresholds (see Table 1). Do not add (See Datasheet)", 8 VREF (out) "Buffered Reference Voltage. A 1.210V nominal reference used for the programming voltage (VPG) and for the offset of negative adjustable applications. The buffered reference can source and sink up to 1mA. The reference can (See Datasheet)", 9 V4 (in) "Voltage Input 4. Select from 1.8V, 1.5V, ADJ or -ADJ. See Table 1 for details.", 10 V2 (in) "Voltage Input 2. Select from 3.3V, 3V or 2.5V. See Table 1 for details. The greater of (V1, V2) is also VCC for the device. Bypass this pin to ground with a 0.1uF (or greater) capacitor. R\S\T\ is weakly pulled up to V2 (See Datasheet)"

## LTC2900-1CMS#TRPBF
designator U?
Programmable Quad Supply Monitor with Adjustable Reset Timer, 10-pin SOP (MS-10), 0 to 70 degC, Pb-Free, Tape and Reel; Manufacturer: Linear Technology; PartNumber: LTC2900-1CMS#TRPBF; Number of Supplies(#): 4; PackageVersion: Rev. E, 06/2010; PackageReference: MS-10; PackageDescription: 10-Pin Plastic MSOP, Body 3 x 3 mm, Pitch 0.5 mm; Supplier 1: Digi-Key; Supplier Part Number 1: LTC2900-1CMS#TRPBF-ND; Supplier 2: Newark; Supplier Part Number 2: 56M6547; Packing: Tape and Reel; RoHS: TRUE; Mounting Technology: Surface Mount; ComponentLink1Description: Manufacturer URL; ComponentLink1URL: http://www.linear.com/; ComponentLink2Description: Datasheet; ComponentLink2URL: http://cds.linear.com/docs/en/datasheet/2900f.pdf; ComponentLink3Description: Package Specification; ComponentLink3URL: http://cds.linear.com/docs/en/packaging/05081661_F_MS.pdf
footprint LT-MS-10_N (SOP, 10-Leads, Body 3.1x3.1mm, Pitch 0.5mm, IPC Medium Density)
footprint LT-MS-10_L (SOP, 10-Leads, Body 3.1x3.1mm, Pitch 0.5mm, IPC High Density)
footprint LT-MS-10_M (SOP, 10-Leads, Body 3.1x3.1mm, Pitch 0.5mm, IPC Low Density)
pins: 1 V3 (in) "Voltage Input 3. Select from 2.5V, 1.8V, 1.5V or ADJ. See Table 1 for details.", 2 V1 (in) "Voltage Input 1. Select from 5V or 3.3V. See Table 1 for details. The greater of (V1, V2) is also VCC for the device. Bypass this pin to ground with a 0.1uF (or greater) capacitor.", 3 CRT (in) "Reset Delay Time Programming Pin. Attach an external capacitor (CRT) to GND to set a reset delay time of 4.6ms/nF. Leaving the pin open generates a minimum delay of approximately 50us. A 47nF capacitor will generate a 216ms (See Datasheet)", 4 ~{RST} (oc) "Reset Logic Output. Active low with weak pull-up to V2 (LTC2900-1) or active pull-up to V2 (LTC2900-2). Pulls low when any voltage input is below the reset threshold and held low for the programmed delay time after all (See Datasheet)", 5 ~{PBR} (in) "Manual Reset Pin. Attach a push-button switch between this pin and ground. A logic low on this pin will pull R\S\T\ low. When the P\B\R\ pin returns high, R\S\T\ will return high after the programmed reset delay assuming all (See Datasheet)", 6 GND (power) "Ground.", 7 VPG (in) "Voltage Threshold Combination Select Input. Connect to an external 1% resistive divider between VREF and GND to select 1 of 16 combinations of preset and/or +/-adjustable voltage thresholds (see Table 1). Do not add (See Datasheet)", 8 VREF (out) "Buffered Reference Voltage. A 1.210V nominal reference used for the programming voltage (VPG) and for the offset of negative adjustable applications. The buffered reference can source and sink up to 1mA. The reference can (See Datasheet)", 9 V4 (in) "Voltage Input 4. Select from 1.8V, 1.5V, ADJ or -ADJ. See Table 1 for details.", 10 V2 (in) "Voltage Input 2. Select from 3.3V, 3V or 2.5V. See Table 1 for details. The greater of (V1, V2) is also VCC for the device. Bypass this pin to ground with a 0.1uF (or greater) capacitor. R\S\T\ is weakly pulled up to V2 (See Datasheet)"

## LTC2900-1IDD
designator U?
Programmable Quad Supply Monitor with Adjustable Reset Timer, 10-pin SON (DD-10), -40 to 85 degC; Manufacturer: Linear Technology; PartNumber: LTC2900-1IDD; Number of Supplies(#): 4; PackageVersion: Rev. C, 06/2010; PackageReference: DD-10; PackageDescription: 10-Pin Plastic DFN, Body 3 x 3 mm, Pitch 0.5 mm; Supplier 1: Digi-Key; Supplier Part Number 1: LTC2900-1IDD-ND; RoHS: FALSE; Mounting Technology: Surface Mount; Code_JEDEC: MO-229; ComponentLink1Description: Manufacturer URL; ComponentLink1URL: http://www.linear.com/; ComponentLink2Description: Datasheet; ComponentLink2URL: http://cds.linear.com/docs/en/datasheet/2900f.pdf; ComponentLink3Description: Package Specification; ComponentLink3URL: http://cds.linear.com/docs/en/packaging/DFN_10_05-08-1699.pdf
footprint LT-DD-10_V (SON, 10-Leads, Body 3x3mm, Pitch 0.5mm, Thermal Pad 2.38x1.65mm)
pins: 1 V3 (in) "Voltage Input 3. Select from 2.5V, 1.8V, 1.5V or ADJ. See Table 1 for details.", 2 V1 (in) "Voltage Input 1. Select from 5V or 3.3V. See Table 1 for details. The greater of (V1, V2) is also VCC for the device. Bypass this pin to ground with a 0.1uF (or greater) capacitor.", 3 CRT (in) "Reset Delay Time Programming Pin. Attach an external capacitor (CRT) to GND to set a reset delay time of 4.6ms/nF. Leaving the pin open generates a minimum delay of approximately 50us. A 47nF capacitor will generate a 216ms (See Datasheet)", 4 ~{RST} (oc) "Reset Logic Output. Active low with weak pull-up to V2 (LTC2900-1) or active pull-up to V2 (LTC2900-2). Pulls low when any voltage input is below the reset threshold and held low for the programmed delay time after all (See Datasheet)", 5 ~{PBR} (in) "Manual Reset Pin. Attach a push-button switch between this pin and ground. A logic low on this pin will pull R\S\T\ low. When the P\B\R\ pin returns high, R\S\T\ will return high after the programmed reset delay assuming all (See Datasheet)", 6 GND (power) "Ground.", 7 VPG (in) "Voltage Threshold Combination Select Input. Connect to an external 1% resistive divider between VREF and GND to select 1 of 16 combinations of preset and/or +/-adjustable voltage thresholds (see Table 1). Do not add (See Datasheet)", 8 VREF (out) "Buffered Reference Voltage. A 1.210V nominal reference used for the programming voltage (VPG) and for the offset of negative adjustable applications. The buffered reference can source and sink up to 1mA. The reference can (See Datasheet)", 9 V4 (in) "Voltage Input 4. Select from 1.8V, 1.5V, ADJ or -ADJ. See Table 1 for details.", 10 V2 (in) "Voltage Input 2. Select from 3.3V, 3V or 2.5V. See Table 1 for details. The greater of (V1, V2) is also VCC for the device. Bypass this pin to ground with a 0.1uF (or greater) capacitor. R\S\T\ is weakly pulled up to V2 (See Datasheet)", 11 EP

## LTC2900-1IDD#PBF
designator U?
Programmable Quad Supply Monitor with Adjustable Reset Timer, 10-pin SON (DD-10), -40 to 85 degC, Pb-Free; Manufacturer: Linear Technology; PartNumber: LTC2900-1IDD#PBF; Number of Supplies(#): 4; PackageVersion: Rev. C, 06/2010; PackageReference: DD-10; PackageDescription: 10-Pin Plastic DFN, Body 3 x 3 mm, Pitch 0.5 mm; Supplier 1: Digi-Key; Supplier Part Number 1: LTC2900-1IDD#PBF-ND; RoHS: TRUE; Mounting Technology: Surface Mount; Code_JEDEC: MO-229; ComponentLink1Description: Manufacturer URL; ComponentLink1URL: http://www.linear.com/; ComponentLink2Description: Datasheet; ComponentLink2URL: http://cds.linear.com/docs/en/datasheet/2900f.pdf; ComponentLink3Description: Package Specification; ComponentLink3URL: http://cds.linear.com/docs/en/packaging/DFN_10_05-08-1699.pdf
footprint LT-DD-10_V (SON, 10-Leads, Body 3x3mm, Pitch 0.5mm, Thermal Pad 2.38x1.65mm)
pins: 1 V3 (in) "Voltage Input 3. Select from 2.5V, 1.8V, 1.5V or ADJ. See Table 1 for details.", 2 V1 (in) "Voltage Input 1. Select from 5V or 3.3V. See Table 1 for details. The greater of (V1, V2) is also VCC for the device. Bypass this pin to ground with a 0.1uF (or greater) capacitor.", 3 CRT (in) "Reset Delay Time Programming Pin. Attach an external capacitor (CRT) to GND to set a reset delay time of 4.6ms/nF. Leaving the pin open generates a minimum delay of approximately 50us. A 47nF capacitor will generate a 216ms (See Datasheet)", 4 ~{RST} (oc) "Reset Logic Output. Active low with weak pull-up to V2 (LTC2900-1) or active pull-up to V2 (LTC2900-2). Pulls low when any voltage input is below the reset threshold and held low for the programmed delay time after all (See Datasheet)", 5 ~{PBR} (in) "Manual Reset Pin. Attach a push-button switch between this pin and ground. A logic low on this pin will pull R\S\T\ low. When the P\B\R\ pin returns high, R\S\T\ will return high after the programmed reset delay assuming all (See Datasheet)", 6 GND (power) "Ground.", 7 VPG (in) "Voltage Threshold Combination Select Input. Connect to an external 1% resistive divider between VREF and GND to select 1 of 16 combinations of preset and/or +/-adjustable voltage thresholds (see Table 1). Do not add (See Datasheet)", 8 VREF (out) "Buffered Reference Voltage. A 1.210V nominal reference used for the programming voltage (VPG) and for the offset of negative adjustable applications. The buffered reference can source and sink up to 1mA. The reference can (See Datasheet)", 9 V4 (in) "Voltage Input 4. Select from 1.8V, 1.5V, ADJ or -ADJ. See Table 1 for details.", 10 V2 (in) "Voltage Input 2. Select from 3.3V, 3V or 2.5V. See Table 1 for details. The greater of (V1, V2) is also VCC for the device. Bypass this pin to ground with a 0.1uF (or greater) capacitor. R\S\T\ is weakly pulled up to V2 (See Datasheet)", 11 EP

## LTC2900-1IDD#TR
designator U?
Programmable Quad Supply Monitor with Adjustable Reset Timer, 10-pin SON (DD-10), -40 to 85 degC, Tape and Reel; Manufacturer: Linear Technology; PartNumber: LTC2900-1IDD#TR; Number of Supplies(#): 4; PackageVersion: Rev. C, 06/2010; PackageReference: DD-10; PackageDescription: 10-Pin Plastic DFN, Body 3 x 3 mm, Pitch 0.5 mm; Supplier 1: Digi-Key; Supplier Part Number 1: LTC2900-1IDD#TR-ND; Packing: Tape and Reel; RoHS: FALSE; Mounting Technology: Surface Mount; Code_JEDEC: MO-229; ComponentLink1Description: Manufacturer URL; ComponentLink1URL: http://www.linear.com/; ComponentLink2Description: Datasheet; ComponentLink2URL: http://cds.linear.com/docs/en/datasheet/2900f.pdf; ComponentLink3Description: Package Specification; ComponentLink3URL: http://cds.linear.com/docs/en/packaging/DFN_10_05-08-1699.pdf
footprint LT-DD-10_V (SON, 10-Leads, Body 3x3mm, Pitch 0.5mm, Thermal Pad 2.38x1.65mm)
pins: 1 V3 (in) "Voltage Input 3. Select from 2.5V, 1.8V, 1.5V or ADJ. See Table 1 for details.", 2 V1 (in) "Voltage Input 1. Select from 5V or 3.3V. See Table 1 for details. The greater of (V1, V2) is also VCC for the device. Bypass this pin to ground with a 0.1uF (or greater) capacitor.", 3 CRT (in) "Reset Delay Time Programming Pin. Attach an external capacitor (CRT) to GND to set a reset delay time of 4.6ms/nF. Leaving the pin open generates a minimum delay of approximately 50us. A 47nF capacitor will generate a 216ms (See Datasheet)", 4 ~{RST} (oc) "Reset Logic Output. Active low with weak pull-up to V2 (LTC2900-1) or active pull-up to V2 (LTC2900-2). Pulls low when any voltage input is below the reset threshold and held low for the programmed delay time after all (See Datasheet)", 5 ~{PBR} (in) "Manual Reset Pin. Attach a push-button switch between this pin and ground. A logic low on this pin will pull R\S\T\ low. When the P\B\R\ pin returns high, R\S\T\ will return high after the programmed reset delay assuming all (See Datasheet)", 6 GND (power) "Ground.", 7 VPG (in) "Voltage Threshold Combination Select Input. Connect to an external 1% resistive divider between VREF and GND to select 1 of 16 combinations of preset and/or +/-adjustable voltage thresholds (see Table 1). Do not add (See Datasheet)", 8 VREF (out) "Buffered Reference Voltage. A 1.210V nominal reference used for the programming voltage (VPG) and for the offset of negative adjustable applications. The buffered reference can source and sink up to 1mA. The reference can (See Datasheet)", 9 V4 (in) "Voltage Input 4. Select from 1.8V, 1.5V, ADJ or -ADJ. See Table 1 for details.", 10 V2 (in) "Voltage Input 2. Select from 3.3V, 3V or 2.5V. See Table 1 for details. The greater of (V1, V2) is also VCC for the device. Bypass this pin to ground with a 0.1uF (or greater) capacitor. R\S\T\ is weakly pulled up to V2 (See Datasheet)", 11 EP

## LTC2900-1IDD#TRPBF
designator U?
Programmable Quad Supply Monitor with Adjustable Reset Timer, 10-pin SON (DD-10), -40 to 85 degC, Pb-Free, Tape and Reel; Manufacturer: Linear Technology; PartNumber: LTC2900-1IDD#TRPBF; Number of Supplies(#): 4; PackageVersion: Rev. C, 06/2010; PackageReference: DD-10; PackageDescription: 10-Pin Plastic DFN, Body 3 x 3 mm, Pitch 0.5 mm; Supplier 1: Digi-Key; Supplier Part Number 1: LTC2900-1IDD#TRPBF-ND; Supplier 2: Newark; Supplier Part Number 2: 56M6551; Packing: Tape and Reel; RoHS: TRUE; Mounting Technology: Surface Mount; Code_JEDEC: MO-229; ComponentLink1Description: Manufacturer URL; ComponentLink1URL: http://www.linear.com/; ComponentLink2Description: Datasheet; ComponentLink2URL: http://cds.linear.com/docs/en/datasheet/2900f.pdf; ComponentLink3Description: Package Specification; ComponentLink3URL: http://cds.linear.com/docs/en/packaging/DFN_10_05-08-1699.pdf
footprint LT-DD-10_V (SON, 10-Leads, Body 3x3mm, Pitch 0.5mm, Thermal Pad 2.38x1.65mm)
pins: 1 V3 (in) "Voltage Input 3. Select from 2.5V, 1.8V, 1.5V or ADJ. See Table 1 for details.", 2 V1 (in) "Voltage Input 1. Select from 5V or 3.3V. See Table 1 for details. The greater of (V1, V2) is also VCC for the device. Bypass this pin to ground with a 0.1uF (or greater) capacitor.", 3 CRT (in) "Reset Delay Time Programming Pin. Attach an external capacitor (CRT) to GND to set a reset delay time of 4.6ms/nF. Leaving the pin open generates a minimum delay of approximately 50us. A 47nF capacitor will generate a 216ms (See Datasheet)", 4 ~{RST} (oc) "Reset Logic Output. Active low with weak pull-up to V2 (LTC2900-1) or active pull-up to V2 (LTC2900-2). Pulls low when any voltage input is below the reset threshold and held low for the programmed delay time after all (See Datasheet)", 5 ~{PBR} (in) "Manual Reset Pin. Attach a push-button switch between this pin and ground. A logic low on this pin will pull R\S\T\ low. When the P\B\R\ pin returns high, R\S\T\ will return high after the programmed reset delay assuming all (See Datasheet)", 6 GND (power) "Ground.", 7 VPG (in) "Voltage Threshold Combination Select Input. Connect to an external 1% resistive divider between VREF and GND to select 1 of 16 combinations of preset and/or +/-adjustable voltage thresholds (see Table 1). Do not add (See Datasheet)", 8 VREF (out) "Buffered Reference Voltage. A 1.210V nominal reference used for the programming voltage (VPG) and for the offset of negative adjustable applications. The buffered reference can source and sink up to 1mA. The reference can (See Datasheet)", 9 V4 (in) "Voltage Input 4. Select from 1.8V, 1.5V, ADJ or -ADJ. See Table 1 for details.", 10 V2 (in) "Voltage Input 2. Select from 3.3V, 3V or 2.5V. See Table 1 for details. The greater of (V1, V2) is also VCC for the device. Bypass this pin to ground with a 0.1uF (or greater) capacitor. R\S\T\ is weakly pulled up to V2 (See Datasheet)", 11 EP